# EAGLE library part C&K_JS202011SCQN (library GClueParts)
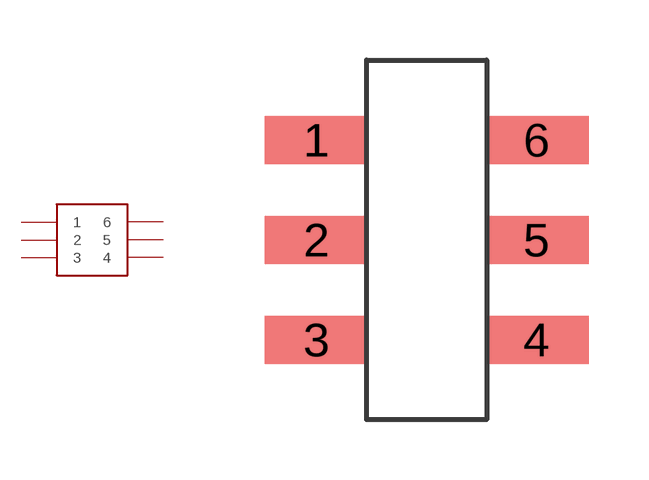
[diagram p0: symbol with the pads of C&K_JS202011SCQN; footprint C&K_JS202011SCQN]

Designator prefix -

## C&K_JS202011SCQN  [C&K_JS202011SCQN]
1  1
2  2
3  3
4  4
5  5
6  6

## Footprint C&K_JS202011SCQN (pad centres in mm)
smd 2.6 x 1.2: 1 -2.75,2.5; 2 -2.75,0; 3 -2.75,-2.5; 4 2.75,-2.5; 5 2.75,0; 6 2.75,2.5